# EAGLE library part DAT-31RF-PP (library NewSDR)
Minicircuits Digital Step Attenuator; 31.5 dB, 0.5 dB Step; 3V
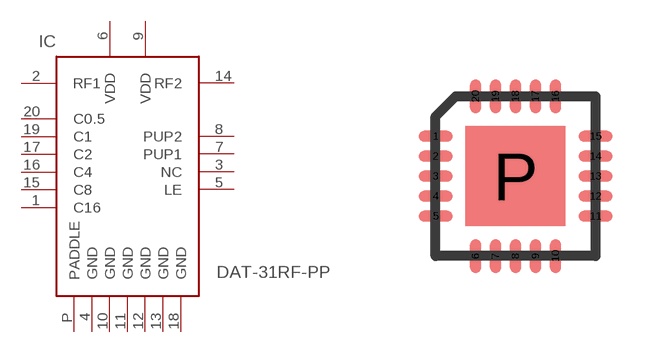
[diagram p58: symbol with the pads of QFN-20_P; footprint QFN-20_P]

Designator prefix IC

## DAT-31RF-PP  [QFN-20_P]
1  C16  in
2  RF1
3  NC  in
4  GND  pwr
5  LE  in
6  VDD  pwr
7  PUP1  in
8  PUP2  in
9  VDD  pwr
10  GND  pwr
11  GND  pwr
12  GND  pwr
13  GND  pwr
14  RF2
15  C8  in
16  C4  in
17  C2  in
18  GND  pwr
19  C1  in
20  C0.5  in
P  PADDLE  pwr

## Footprint QFN-20_P (pad centres in mm)
20-pin QFN
smd 0.85 x 0.28: 1 -2,1; 2 -2,0.5; 3 -2,0; 4 -2,-0.5; 5 -2,-1; 11 2,-1; 12 2,-0.5; 13 2,0; 14 2,0.5; 15 2,1
smd 0.28 x 0.85: 6 -1,-2; 7 -0.5,-2; 8 0,-2; 9 0.5,-2; 10 1,-2; 16 1,2; 17 0.5,2; 18 0,2; 19 -0.5,2; 20 -1,2
smd 2.5 x 2.5: P 0,0